# EAGLE library part MCP4725A0T-E/CH (library openag-dacs)
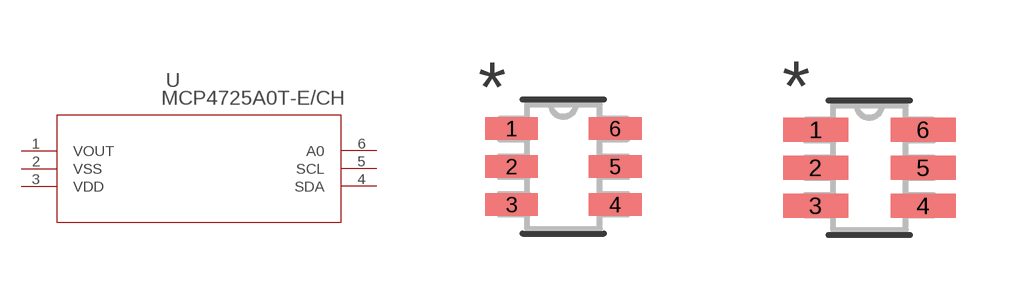
[diagram p1: symbol with the pads of SOT-23-6_MC; footprints SOT-23-6_MC, SOT-23-6_MC-M]

Designator prefix U

## MCP4725A0T-E/CH (MANUFACTURER_PART_NUMBER: MCP4725A0TECH; VENDOR: Microchip)  [SOT-23-6_MC]
1  VOUT  pas
2  VSS  pas
3  VDD  pas
4  SDA  pas
5  SCL  pas
6  A0  pas

## MCP4725A0T-E/CHSOT-23-6_MC-M (MANUFACTURER_PART_NUMBER: MCP4725A0TECH; VENDOR: Microchip)  [SOT-23-6_MC-M]
Pads as for SOT-23-6_MC

## MCP4725A0T-E/CHSOT-23-6_MC-L (MANUFACTURER_PART_NUMBER: MCP4725A0TECH; VENDOR: Microchip)  [SOT-23-6_MC-L]
Pads as for SOT-23-6_MC

## Footprint SOT-23-6_MC (pad centres in mm)
smd 1.321 x 0.559: 1 -1.295,0.95; 2 -1.295,0; 3 -1.295,-0.95; 4 1.295,-0.95; 5 1.295,0; 6 1.295,0.95

## Footprint SOT-23-6_MC-M (pad centres in mm)
smd 1.626 x 0.61: 1 -1.346,0.95; 2 -1.346,0; 3 -1.346,-0.95; 4 1.346,-0.95; 5 1.346,0; 6 1.346,0.95

## Footprint SOT-23-6_MC-L (pad centres in mm)
smd 1.016 x 0.508: 1 -1.245,0.95; 2 -1.245,0; 3 -1.245,-0.95; 4 1.245,-0.95; 5 1.245,0; 6 1.245,0.95